# Altium integrated library TI Amplifiers and Linear Isolation Amplifier.IntLib: 19 symbols
Pins are listed as number, name and electrical type; pins without a type are passive.

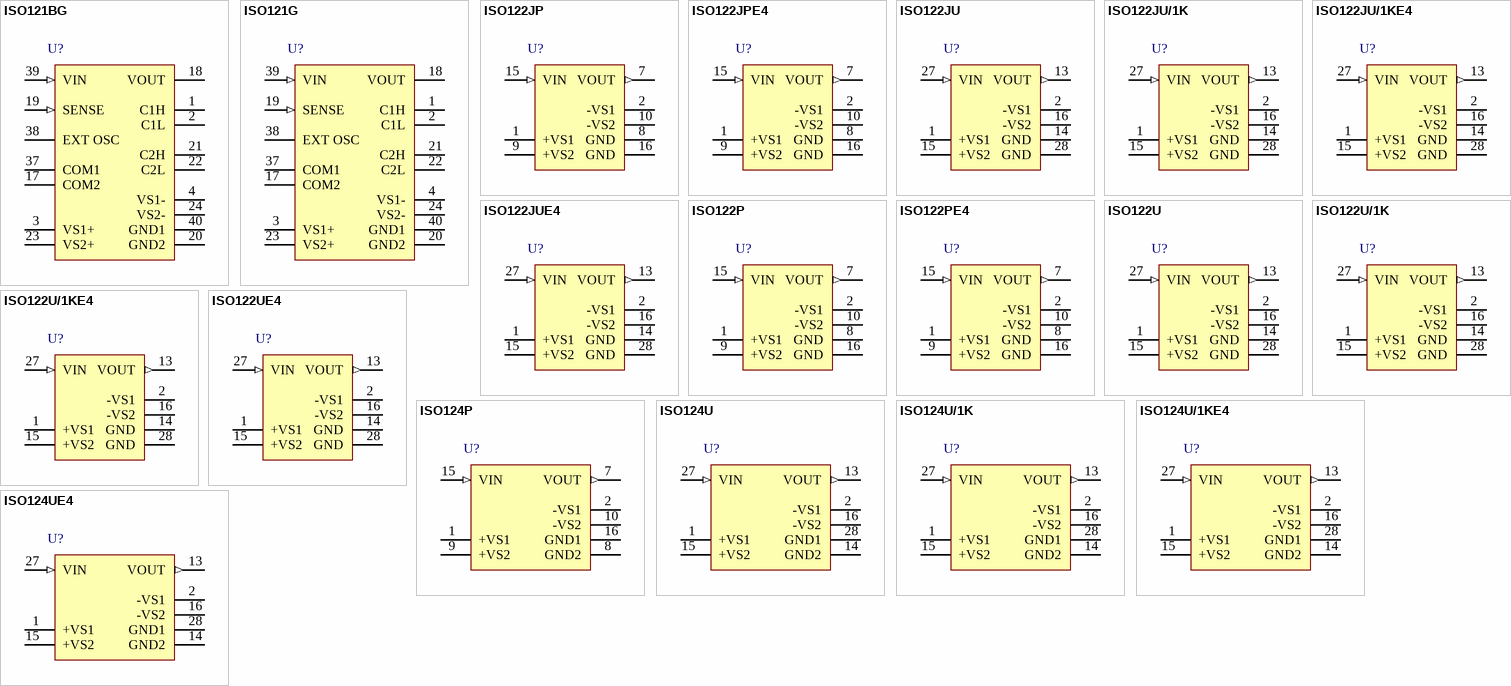
[diagram p0: symbols ISO121BG to ISO124UE4]

## ISO121BG
designator U?
Precision Low Cost Isolation Amplifier, -55 to 125 degC, 16-pin DIP (JVD16), Green (RoHS & no Sb/Br); Manufacturer: Texas Instruments; PartNumber: ISO121BG; Gain Non-Linearity (+/-)(Max)(%): 0.01; Isolation Mode Rejection 60Hz(Typ)(dB): 115; Isolation Voltage Cont Peak (DC)(V): 4950; Isolation Voltage Pulse/Test Peak(V): 5600; Leakage Current at 240V/60Hz(Max)(uArms): 0.5; Small Signal Bandwidth(Typ)(kHz): 60; DatasheetVersion: SBOS158; PackageVersion: 4202636/A, 08/2001; PackageReference: CDIP_SB_JVD-16; PackageDescription: 16-Pin Ceramic Side-Breaze Dual-In-Line, Body 50.925 x 15.11 mm, Pitch 2.54 mm; Supplier 1: Digi-Key; Supplier Part Number 1: 296-12577-5-ND; Supplier 2: Newark; Supplier Part Number 2: 35C1750; Supplier 3: Mouser; Supplier Part Number 3: 595-ISO121BG; Eco-Plan: Green (RoHS & no Sb/Br); SubFamily: Isolation Amplifier; Mounting Technology: Through Hole; Code_JEDEC: MO-038-AC; ComponentLink1Description: Manufacturer URL; ComponentLink1URL: http://www.ti.com/; ComponentLink2Description: Datasheet; ComponentLink2URL: http://www.ti.com/general/docs/lit/getliterature.tsp?genericPartNumber=ISO121&fileType=pdf; ComponentLink3Description: Package Specification; ComponentLink3URL: http://www.ti.com/litv/pdf/mcdi039
footprint TI-JVD16 (DIP, 16-Leads, Body 50.925x15.11mm, Pitch 2.54mm)
pins: 1 C1H, 2 C1L, 3 VS1+ (power), 4 VS1- (power), 17 COM2, 18 VOUT (hiz), 19 SENSE (in), 20 GND2 (power), 21 C2H, 22 C2L, 23 VS2+ (power), 24 VS2- (power), 37 COM1, 38 EXT OSC, 39 VIN (in), 40 GND1 (power)

## ISO121G
designator U?
Precision Low Cost Isolation Amplifier, -55 to 125 degC, 16-pin DIP (JVD16), Green (RoHS & no Sb/Br); Manufacturer: Texas Instruments; PartNumber: ISO121G; Gain Non-Linearity (+/-)(Max)(%): 0.05; Isolation Mode Rejection 60Hz(Typ)(dB): 115; Isolation Voltage Cont Peak (DC)(V): 4950; Isolation Voltage Pulse/Test Peak(V): 5600; Leakage Current at 240V/60Hz(Max)(uArms): 0.5; Small Signal Bandwidth(Typ)(kHz): 60; DatasheetVersion: SBOS158; PackageVersion: 4202636/A, 08/2001; PackageReference: CDIP_SB_JVD-16; PackageDescription: 16-Pin Ceramic Side-Breaze Dual-In-Line, Body 50.925 x 15.11 mm, Pitch 2.54 mm; Supplier 1: Digi-Key; Supplier Part Number 1: 296-36096-5-ND; Supplier 2: Mouser; Supplier Part Number 2: 595-ISO121G; Eco-Plan: Green (RoHS & no Sb/Br); SubFamily: Isolation Amplifier; Mounting Technology: Through Hole; Code_JEDEC: MO-038-AC; ComponentLink1Description: Manufacturer URL; ComponentLink1URL: http://www.ti.com/; ComponentLink2Description: Datasheet; ComponentLink2URL: http://www.ti.com/general/docs/lit/getliterature.tsp?genericPartNumber=ISO121&fileType=pdf; ComponentLink3Description: Package Specification; ComponentLink3URL: http://www.ti.com/litv/pdf/mcdi039
footprint TI-JVD16 (DIP, 16-Leads, Body 50.925x15.11mm, Pitch 2.54mm)
pins: 1 C1H, 2 C1L, 3 VS1+ (power), 4 VS1- (power), 17 COM2, 18 VOUT (hiz), 19 SENSE (in), 20 GND2 (power), 21 C2H, 22 C2L, 23 VS2+ (power), 24 VS2- (power), 37 COM1, 38 EXT OSC, 39 VIN (in), 40 GND1 (power)

## ISO122JP
designator U?
Precision Low Cost Isolation Amplifier, -25 to 85 degC, 8-pin PDIP (NVF8), Pb-Free (RoHS); Manufacturer: Texas Instruments; PartNumber: ISO122JP; Gain Non-Linearity (+/-)(Max)(%): 0.05; Isolation Mode Rejection 60Hz(Typ)(dB): 140; Isolation Voltage Pulse/Test Peak(V): 2400; Leakage Current at 240V/60Hz(Max)(uArms): 0.5; Small Signal Bandwidth(Typ)(kHz): 50; DatasheetVersion: SBOS160; PackageVersion: 4202501/A, 08/2001; PackageReference: PDIP_NVF-8; PackageDescription: 8-Pin Plastic In-Line, Body 20.005 x 6.605 mm, Pitch 2.54 mm; Supplier 1: Digi-Key; Supplier Part Number 1: ISO122JP-ND; Supplier 2: Newark; Supplier Part Number 2: 75C0481; Supplier 3: Mouser; Supplier Part Number 3: 595-ISO122JP; Eco-Plan: Pb-Free (RoHS); SubFamily: Isolation Amplifier; Mounting Technology: Through Hole; Code_JEDEC: MS-001-BB; ComponentLink1Description: Manufacturer URL; ComponentLink1URL: http://www.ti.com/; ComponentLink2Description: Datasheet; ComponentLink2URL: http://www.ti.com/general/docs/lit/getliterature.tsp?genericPartNumber=ISO122&fileType=pdf; ComponentLink3Description: Package Specification; ComponentLink3URL: http://www.ti.com/litv/pdf/mcdi039
footprint TI-PDIP_NVF-8 (DIP, 8-Leads, Body 20.005x6.605mm, Pitch 1.27mm)
pins: 1 +VS1 (power), 2 -VS1 (power), 7 VOUT (out), 8 GND (power), 9 +VS2 (power), 10 -VS2 (power), 15 VIN (in), 16 GND (power)

## ISO122JPE4
designator U?
Precision Low Cost Isolation Amplifier, -25 to 85 degC, 8-pin PDIP (NVF8), Pb-Free (RoHS); Manufacturer: Texas Instruments; PartNumber: ISO122JPE4; Gain Non-Linearity (+/-)(Max)(%): 0.05; Isolation Mode Rejection 60Hz(Typ)(dB): 140; Isolation Voltage Pulse/Test Peak(V): 2400; Leakage Current at 240V/60Hz(Max)(uArms): 0.5; Small Signal Bandwidth(Typ)(kHz): 50; DatasheetVersion: SBOS160; PackageVersion: 4202501/A, 08/2001; PackageReference: PDIP_NVF-8; PackageDescription: 8-Pin Plastic In-Line, Body 20.005 x 6.605 mm, Pitch 2.54 mm; Supplier 1: Digi-Key; Supplier Part Number 1: 296-36097-5-ND; Supplier 2: Farnell; Supplier Part Number 2: 1178426; Supplier 3: Newark; Supplier Part Number 3: 04M7284; Supplier 4: Newark; Supplier Part Number 4: 80K2279; Supplier 5: Mouser; Supplier Part Number 5: 595-ISO122JPE4; Eco-Plan: Pb-Free (RoHS); SubFamily: Isolation Amplifier; Mounting Technology: Through Hole; Code_JEDEC: MS-001-BB; ComponentLink1Description: Manufacturer URL; ComponentLink1URL: http://www.ti.com/; ComponentLink2Description: Datasheet; ComponentLink2URL: http://www.ti.com/general/docs/lit/getliterature.tsp?genericPartNumber=ISO122&fileType=pdf; ComponentLink3Description: Package Specification; ComponentLink3URL: http://www.ti.com/litv/pdf/mcdi039
footprint TI-PDIP_NVF-8 (DIP, 8-Leads, Body 20.005x6.605mm, Pitch 1.27mm)
pins: 1 +VS1 (power), 2 -VS1 (power), 7 VOUT (out), 8 GND (power), 9 +VS2 (power), 10 -VS2 (power), 15 VIN (in), 16 GND (power)

## ISO122JU
designator U?
Precision Low Cost Isolation Amplifier, -25 to 85 degC, 8-pin SOIC (DVA8), Green (RoHS & no Sb/Br); Manufacturer: Texas Instruments; PartNumber: ISO122JU; Gain Non-Linearity (+/-)(Max)(%): 0.05; Isolation Mode Rejection 60Hz(Typ)(dB): 140; Isolation Voltage Pulse/Test Peak(V): 2400; Leakage Current at 240V/60Hz(Max)(uArms): 0.5; Small Signal Bandwidth(Typ)(kHz): 50; DatasheetVersion: SBOS160; PackageVersion: 4202103/B, 08/2001; PackageReference: DVA8; PackageDescription: 8-Pin Plastic Small Outline, Body 17.9 x 7.5 mm, Pitch 1.27 mm; Supplier 1: Digi-Key; Supplier Part Number 1: ISO122JU-ND; Supplier 2: Newark; Supplier Part Number 2: 35C1751; Supplier 3: Mouser; Supplier Part Number 3: 595-ISO122JU; Eco-Plan: Green (RoHS & no Sb/Br); SubFamily: Isolation Amplifier; Mounting Technology: Surface Mount; Code_JEDEC: MS-013-AE; ComponentLink1Description: Manufacturer URL; ComponentLink1URL: http://www.ti.com/; ComponentLink2Description: Datasheet; ComponentLink2URL: http://www.ti.com/general/docs/lit/getliterature.tsp?genericPartNumber=ISO122&fileType=pdf; ComponentLink3Description: Package Specification; ComponentLink3URL: http://www.ti.com/litv/pdf/mcdi039
footprint TI-DVA8_N (SOIC, 8-Leads, Body 17.9x7.5mm, Pitch 1.27mm, IPC Medium Density)
footprint TI-DVA8_L (SOIC, 8-Leads, Body 17.9x7.5mm, Pitch 1.27mm, IPC High Density)
footprint TI-DVA8_M (SOIC, 8-Leads, Body 17.9x7.5mm, Pitch 1.27mm, IPC Low Density)
pins: 1 +VS1 (power), 2 -VS1 (power), 13 VOUT (out), 14 GND (power), 15 +VS2 (power), 16 -VS2 (power), 27 VIN (in), 28 GND (power)

## ISO122JU/1K
designator U?
Precision Low Cost Isolation Amplifier, -25 to 85 degC, 8-pin SOIC (DVA8), Green (RoHS & no Sb/Br); Manufacturer: Texas Instruments; PartNumber: ISO122JU/1K; Gain Non-Linearity (+/-)(Max)(%): 0.05; Isolation Mode Rejection 60Hz(Typ)(dB): 140; Isolation Voltage Pulse/Test Peak(V): 2400; Leakage Current at 240V/60Hz(Max)(uArms): 0.5; Small Signal Bandwidth(Typ)(kHz): 50; DatasheetVersion: SBOS160; PackageVersion: 4202103/B, 08/2001; PackageReference: DVA8; PackageDescription: 8-Pin Plastic Small Outline, Body 17.9 x 7.5 mm, Pitch 1.27 mm; Supplier 1: Digi-Key; Supplier Part Number 1: ISO122JU/1K-ND; Supplier 2: Newark; Supplier Part Number 2: 75C0482; Supplier 3: Mouser; Supplier Part Number 3: 595-ISO122JU/1K; Eco-Plan: Green (RoHS & no Sb/Br); SubFamily: Isolation Amplifier; Mounting Technology: Surface Mount; Code_JEDEC: MS-013-AE; ComponentLink1Description: Manufacturer URL; ComponentLink1URL: http://www.ti.com/; ComponentLink2Description: Datasheet; ComponentLink2URL: http://www.ti.com/general/docs/lit/getliterature.tsp?genericPartNumber=ISO122&fileType=pdf; ComponentLink3Description: Package Specification; ComponentLink3URL: http://www.ti.com/litv/pdf/mcdi039
footprint TI-DVA8_N (SOIC, 8-Leads, Body 17.9x7.5mm, Pitch 1.27mm, IPC Medium Density)
footprint TI-DVA8_L (SOIC, 8-Leads, Body 17.9x7.5mm, Pitch 1.27mm, IPC High Density)
footprint TI-DVA8_M (SOIC, 8-Leads, Body 17.9x7.5mm, Pitch 1.27mm, IPC Low Density)
pins: 1 +VS1 (power), 2 -VS1 (power), 13 VOUT (out), 14 GND (power), 15 +VS2 (power), 16 -VS2 (power), 27 VIN (in), 28 GND (power)

## ISO122JU/1KE4
designator U?
Precision Low Cost Isolation Amplifier, -25 to 85 degC, 8-pin SOIC (DVA8), Green (RoHS & no Sb/Br); Manufacturer: Texas Instruments; PartNumber: ISO122JU/1KE4; Gain Non-Linearity (+/-)(Max)(%): 0.05; Isolation Mode Rejection 60Hz(Typ)(dB): 140; Isolation Voltage Pulse/Test Peak(V): 2400; Leakage Current at 240V/60Hz(Max)(uArms): 0.5; Small Signal Bandwidth(Typ)(kHz): 50; DatasheetVersion: SBOS160; PackageVersion: 4202103/B, 08/2001; PackageReference: DVA8; PackageDescription: 8-Pin Plastic Small Outline, Body 17.9 x 7.5 mm, Pitch 1.27 mm; Supplier 1: Digi-Key; Supplier Part Number 1: ISO122JU/1KE4-ND; Supplier 2: Newark; Supplier Part Number 2: 61K0053; Supplier 3: Mouser; Supplier Part Number 3: 595-ISO122JU/1KE4; Eco-Plan: Green (RoHS & no Sb/Br); SubFamily: Isolation Amplifier; Mounting Technology: Surface Mount; Code_JEDEC: MS-013-AE; ComponentLink1Description: Manufacturer URL; ComponentLink1URL: http://www.ti.com/; ComponentLink2Description: Datasheet; ComponentLink2URL: http://www.ti.com/general/docs/lit/getliterature.tsp?genericPartNumber=ISO122&fileType=pdf; ComponentLink3Description: Package Specification; ComponentLink3URL: http://www.ti.com/litv/pdf/mcdi039
footprint TI-DVA8_N (SOIC, 8-Leads, Body 17.9x7.5mm, Pitch 1.27mm, IPC Medium Density)
footprint TI-DVA8_L (SOIC, 8-Leads, Body 17.9x7.5mm, Pitch 1.27mm, IPC High Density)
footprint TI-DVA8_M (SOIC, 8-Leads, Body 17.9x7.5mm, Pitch 1.27mm, IPC Low Density)
pins: 1 +VS1 (power), 2 -VS1 (power), 13 VOUT (out), 14 GND (power), 15 +VS2 (power), 16 -VS2 (power), 27 VIN (in), 28 GND (power)

## ISO122JUE4
designator U?
Precision Low Cost Isolation Amplifier, -25 to 85 degC, 8-pin SOIC (DVA8), Green (RoHS & no Sb/Br); Manufacturer: Texas Instruments; PartNumber: ISO122JUE4; Gain Non-Linearity (+/-)(Max)(%): 0.05; Isolation Mode Rejection 60Hz(Typ)(dB): 140; Isolation Voltage Pulse/Test Peak(V): 2400; Leakage Current at 240V/60Hz(Max)(uArms): 0.5; Small Signal Bandwidth(Typ)(kHz): 50; DatasheetVersion: SBOS160; PackageVersion: 4202103/B, 08/2001; PackageReference: DVA8; PackageDescription: 8-Pin Plastic Small Outline, Body 17.9 x 7.5 mm, Pitch 1.27 mm; Supplier 1: Digi-Key; Supplier Part Number 1: ISO122JUE4-ND; Supplier 2: Farnell; Supplier Part Number 2: 1206914; Supplier 3: Newark; Supplier Part Number 3: 97K2529; Supplier 4: Newark; Supplier Part Number 4: 61K0054; Supplier 5: Mouser; Supplier Part Number 5: 595-ISO122JUE4; Eco-Plan: Green (RoHS & no Sb/Br); SubFamily: Isolation Amplifier; Mounting Technology: Surface Mount; Code_JEDEC: MS-013-AE; ComponentLink1Description: Manufacturer URL; ComponentLink1URL: http://www.ti.com/; ComponentLink2Description: Datasheet; ComponentLink2URL: http://www.ti.com/general/docs/lit/getliterature.tsp?genericPartNumber=ISO122&fileType=pdf; ComponentLink3Description: Package Specification; ComponentLink3URL: http://www.ti.com/litv/pdf/mcdi039
footprint TI-DVA8_N (SOIC, 8-Leads, Body 17.9x7.5mm, Pitch 1.27mm, IPC Medium Density)
footprint TI-DVA8_L (SOIC, 8-Leads, Body 17.9x7.5mm, Pitch 1.27mm, IPC High Density)
footprint TI-DVA8_M (SOIC, 8-Leads, Body 17.9x7.5mm, Pitch 1.27mm, IPC Low Density)
pins: 1 +VS1 (power), 2 -VS1 (power), 13 VOUT (out), 14 GND (power), 15 +VS2 (power), 16 -VS2 (power), 27 VIN (in), 28 GND (power)

## ISO122P
designator U?
Precision Low Cost Isolation Amplifier, -25 to 85 degC, 8-pin PDIP (NVF8), Pb-Free (RoHS); Manufacturer: Texas Instruments; PartNumber: ISO122P; Gain Non-Linearity (+/-)(Max)(%): 0.02; Isolation Mode Rejection 60Hz(Typ)(dB): 140; Isolation Voltage Pulse/Test Peak(V): 2400; Leakage Current at 240V/60Hz(Max)(uArms): 0.5; Small Signal Bandwidth(Typ)(kHz): 50; DatasheetVersion: SBOS160; PackageVersion: 4202501/A, 08/2001; PackageReference: PDIP_NVF-8; PackageDescription: 8-Pin Plastic In-Line, Body 20.005 x 6.605 mm, Pitch 2.54 mm; Supplier 1: Digi-Key; Supplier Part Number 1: ISO122P-ND; Supplier 2: Newark; Supplier Part Number 2: 55M8194; Supplier 3: Mouser; Supplier Part Number 3: 595-ISO122P; Eco-Plan: Pb-Free (RoHS); SubFamily: Isolation Amplifier; Mounting Technology: Through Hole; Code_JEDEC: MS-001-BB; ComponentLink1Description: Manufacturer URL; ComponentLink1URL: http://www.ti.com/; ComponentLink2Description: Datasheet; ComponentLink2URL: http://www.ti.com/general/docs/lit/getliterature.tsp?genericPartNumber=ISO122&fileType=pdf; ComponentLink3Description: Package Specification; ComponentLink3URL: http://www.ti.com/litv/pdf/mcdi039
footprint TI-PDIP_NVF-8 (DIP, 8-Leads, Body 20.005x6.605mm, Pitch 1.27mm)
pins: 1 +VS1 (power), 2 -VS1 (power), 7 VOUT (out), 8 GND (power), 9 +VS2 (power), 10 -VS2 (power), 15 VIN (in), 16 GND (power)

## ISO122PE4
designator U?
Precision Low Cost Isolation Amplifier, -25 to 85 degC, 8-pin PDIP (NVF8), Pb-Free (RoHS); Manufacturer: Texas Instruments; PartNumber: ISO122PE4; Gain Non-Linearity (+/-)(Max)(%): 0.02; Isolation Mode Rejection 60Hz(Typ)(dB): 140; Isolation Voltage Pulse/Test Peak(V): 2400; Leakage Current at 240V/60Hz(Max)(uArms): 0.5; Small Signal Bandwidth(Typ)(kHz): 50; DatasheetVersion: SBOS160; PackageVersion: 4202501/A, 08/2001; PackageReference: PDIP_NVF-8; PackageDescription: 8-Pin Plastic In-Line, Body 20.005 x 6.605 mm, Pitch 2.54 mm; Supplier 1: Digi-Key; Supplier Part Number 1: ISO122PE4-ND; Supplier 2: Farnell; Supplier Part Number 2: 1178433; Supplier 3: Newark; Supplier Part Number 3: 24M2977; Supplier 4: Newark; Supplier Part Number 4: 80K2280; Supplier 5: Mouser; Supplier Part Number 5: 595-ISO122PE4; Eco-Plan: Pb-Free (RoHS); SubFamily: Isolation Amplifier; Mounting Technology: Through Hole; Code_JEDEC: MS-001-BB; ComponentLink1Description: Manufacturer URL; ComponentLink1URL: http://www.ti.com/; ComponentLink2Description: Datasheet; ComponentLink2URL: http://www.ti.com/general/docs/lit/getliterature.tsp?genericPartNumber=ISO122&fileType=pdf; ComponentLink3Description: Package Specification; ComponentLink3URL: http://www.ti.com/litv/pdf/mcdi039
footprint TI-PDIP_NVF-8 (DIP, 8-Leads, Body 20.005x6.605mm, Pitch 1.27mm)
pins: 1 +VS1 (power), 2 -VS1 (power), 7 VOUT (out), 8 GND (power), 9 +VS2 (power), 10 -VS2 (power), 15 VIN (in), 16 GND (power)

## ISO122U
designator U?
Precision Low Cost Isolation Amplifier, -25 to 85 degC, 8-pin SOIC (DVA8), Green (RoHS & no Sb/Br); Manufacturer: Texas Instruments; PartNumber: ISO122U; Gain Non-Linearity (+/-)(Max)(%): 0.02; Isolation Mode Rejection 60Hz(Typ)(dB): 140; Isolation Voltage Pulse/Test Peak(V): 2400; Leakage Current at 240V/60Hz(Max)(uArms): 0.5; Small Signal Bandwidth(Typ)(kHz): 50; DatasheetVersion: SBOS160; PackageVersion: 4202103/B, 08/2001; PackageReference: DVA8; PackageDescription: 8-Pin Plastic Small Outline, Body 17.9 x 7.5 mm, Pitch 1.27 mm; Supplier 1: Digi-Key; Supplier Part Number 1: ISO122U-ND; Supplier 2: Newark; Supplier Part Number 2: 75C0483; Supplier 3: Mouser; Supplier Part Number 3: 595-ISO122U; Eco-Plan: Green (RoHS & no Sb/Br); SubFamily: Isolation Amplifier; Mounting Technology: Surface Mount; Code_JEDEC: MS-013-AE; ComponentLink1Description: Manufacturer URL; ComponentLink1URL: http://www.ti.com/; ComponentLink2Description: Datasheet; ComponentLink2URL: http://www.ti.com/general/docs/lit/getliterature.tsp?genericPartNumber=ISO122&fileType=pdf; ComponentLink3Description: Package Specification; ComponentLink3URL: http://www.ti.com/litv/pdf/mcdi039
footprint TI-DVA8_N (SOIC, 8-Leads, Body 17.9x7.5mm, Pitch 1.27mm, IPC Medium Density)
footprint TI-DVA8_L (SOIC, 8-Leads, Body 17.9x7.5mm, Pitch 1.27mm, IPC High Density)
footprint TI-DVA8_M (SOIC, 8-Leads, Body 17.9x7.5mm, Pitch 1.27mm, IPC Low Density)
pins: 1 +VS1 (power), 2 -VS1 (power), 13 VOUT (out), 14 GND (power), 15 +VS2 (power), 16 -VS2 (power), 27 VIN (in), 28 GND (power)

## ISO122U/1K
designator U?
Precision Low Cost Isolation Amplifier, -25 to 85 degC, 8-pin SOIC (DVA8), Green (RoHS & no Sb/Br); Manufacturer: Texas Instruments; PartNumber: ISO122U/1K; Gain Non-Linearity (+/-)(Max)(%): 0.02; Isolation Mode Rejection 60Hz(Typ)(dB): 140; Isolation Voltage Pulse/Test Peak(V): 2400; Leakage Current at 240V/60Hz(Max)(uArms): 0.5; Small Signal Bandwidth(Typ)(kHz): 50; DatasheetVersion: SBOS160; PackageVersion: 4202103/B, 08/2001; PackageReference: DVA8; PackageDescription: 8-Pin Plastic Small Outline, Body 17.9 x 7.5 mm, Pitch 1.27 mm; Supplier 1: Digi-Key; Supplier Part Number 1: ISO122U/1K-ND; Supplier 2: Newark; Supplier Part Number 2: 75C0484; Supplier 3: Mouser; Supplier Part Number 3: 595-ISO122U/1K; Eco-Plan: Green (RoHS & no Sb/Br); SubFamily: Isolation Amplifier; Mounting Technology: Surface Mount; Code_JEDEC: MS-013-AE; ComponentLink1Description: Manufacturer URL; ComponentLink1URL: http://www.ti.com/; ComponentLink2Description: Datasheet; ComponentLink2URL: http://www.ti.com/general/docs/lit/getliterature.tsp?genericPartNumber=ISO122&fileType=pdf; ComponentLink3Description: Package Specification; ComponentLink3URL: http://www.ti.com/litv/pdf/mcdi039
footprint TI-DVA8_N (SOIC, 8-Leads, Body 17.9x7.5mm, Pitch 1.27mm, IPC Medium Density)
footprint TI-DVA8_L (SOIC, 8-Leads, Body 17.9x7.5mm, Pitch 1.27mm, IPC High Density)
footprint TI-DVA8_M (SOIC, 8-Leads, Body 17.9x7.5mm, Pitch 1.27mm, IPC Low Density)
pins: 1 +VS1 (power), 2 -VS1 (power), 13 VOUT (out), 14 GND (power), 15 +VS2 (power), 16 -VS2 (power), 27 VIN (in), 28 GND (power)

## ISO122U/1KE4
designator U?
Precision Low Cost Isolation Amplifier, -25 to 85 degC, 8-pin SOIC (DVA8), Green (RoHS & no Sb/Br); Manufacturer: Texas Instruments; PartNumber: ISO122U/1KE4; Gain Non-Linearity (+/-)(Max)(%): 0.02; Isolation Mode Rejection 60Hz(Typ)(dB): 140; Isolation Voltage Pulse/Test Peak(V): 2400; Leakage Current at 240V/60Hz(Max)(uArms): 0.5; Small Signal Bandwidth(Typ)(kHz): 50; DatasheetVersion: SBOS160; PackageVersion: 4202103/B, 08/2001; PackageReference: DVA8; PackageDescription: 8-Pin Plastic Small Outline, Body 17.9 x 7.5 mm, Pitch 1.27 mm; Supplier 1: Digi-Key; Supplier Part Number 1: ISO122U/1KE4-ND; Supplier 2: Newark; Supplier Part Number 2: 61K0055; Supplier 3: Mouser; Supplier Part Number 3: 595-ISO122U/1KE4; Eco-Plan: Green (RoHS & no Sb/Br); SubFamily: Isolation Amplifier; Mounting Technology: Surface Mount; Code_JEDEC: MS-013-AE; ComponentLink1Description: Manufacturer URL; ComponentLink1URL: http://www.ti.com/; ComponentLink2Description: Datasheet; ComponentLink2URL: http://www.ti.com/general/docs/lit/getliterature.tsp?genericPartNumber=ISO122&fileType=pdf; ComponentLink3Description: Package Specification; ComponentLink3URL: http://www.ti.com/litv/pdf/mcdi039
footprint TI-DVA8_N (SOIC, 8-Leads, Body 17.9x7.5mm, Pitch 1.27mm, IPC Medium Density)
footprint TI-DVA8_L (SOIC, 8-Leads, Body 17.9x7.5mm, Pitch 1.27mm, IPC High Density)
footprint TI-DVA8_M (SOIC, 8-Leads, Body 17.9x7.5mm, Pitch 1.27mm, IPC Low Density)
pins: 1 +VS1 (power), 2 -VS1 (power), 13 VOUT (out), 14 GND (power), 15 +VS2 (power), 16 -VS2 (power), 27 VIN (in), 28 GND (power)

## ISO122UE4
designator U?
Precision Low Cost Isolation Amplifier, -25 to 85 degC, 8-pin SOIC (DVA8), Green (RoHS & no Sb/Br); Manufacturer: Texas Instruments; PartNumber: ISO122UE4; Gain Non-Linearity (+/-)(Max)(%): 0.02; Isolation Mode Rejection 60Hz(Typ)(dB): 140; Isolation Voltage Pulse/Test Peak(V): 2400; Leakage Current at 240V/60Hz(Max)(uArms): 0.5; Small Signal Bandwidth(Typ)(kHz): 50; DatasheetVersion: SBOS160; PackageVersion: 4202103/B, 08/2001; PackageReference: DVA8; PackageDescription: 8-Pin Plastic Small Outline, Body 17.9 x 7.5 mm, Pitch 1.27 mm; Supplier 1: Digi-Key; Supplier Part Number 1: ISO122UE4-ND; Supplier 2: Farnell; Supplier Part Number 2: 1206915; Supplier 3: Newark; Supplier Part Number 3: 97K2530; Supplier 4: Newark; Supplier Part Number 4: 61K0056; Supplier 5: Mouser; Supplier Part Number 5: 595-ISO122UE4; Eco-Plan: Green (RoHS & no Sb/Br); SubFamily: Isolation Amplifier; Mounting Technology: Surface Mount; Code_JEDEC: MS-013-AE; ComponentLink1Description: Manufacturer URL; ComponentLink1URL: http://www.ti.com/; ComponentLink2Description: Datasheet; ComponentLink2URL: http://www.ti.com/general/docs/lit/getliterature.tsp?genericPartNumber=ISO122&fileType=pdf; ComponentLink3Description: Package Specification; ComponentLink3URL: http://www.ti.com/litv/pdf/mcdi039
footprint TI-DVA8_N (SOIC, 8-Leads, Body 17.9x7.5mm, Pitch 1.27mm, IPC Medium Density)
footprint TI-DVA8_L (SOIC, 8-Leads, Body 17.9x7.5mm, Pitch 1.27mm, IPC High Density)
footprint TI-DVA8_M (SOIC, 8-Leads, Body 17.9x7.5mm, Pitch 1.27mm, IPC Low Density)
pins: 1 +VS1 (power), 2 -VS1 (power), 13 VOUT (out), 14 GND (power), 15 +VS2 (power), 16 -VS2 (power), 27 VIN (in), 28 GND (power)

## ISO124P
designator U?
Precision Low Cost Isolation Amplifier, -25 to 85 degC, 8-pin PDIP (NVF8), Pb-Free (RoHS); Manufacturer: Texas Instruments; PartNumber: ISO124P; Gain Non-Linearity (+/-)(Max)(%): 0.01; Isolation Mode Rejection 60Hz(Typ)(dB): 140; Isolation Voltage Pulse/Test Peak(V): 2400; Leakage Current at 240V/60Hz(Max)(uArms): 0.5; Small Signal Bandwidth(Typ)(kHz): 50; DatasheetVersion: SBOS074C; PackageVersion: 4202501/A, 08/2001; PackageReference: PDIP_NVF-8; PackageDescription: 8-Pin Plastic In-Line, Body 20.005 x 6.605 mm, Pitch 2.54 mm; Supplier 1: Digi-Key; Supplier Part Number 1: ISO124P-ND; Supplier 2: Farnell; Supplier Part Number 2: 1212425; Supplier 3: Newark; Supplier Part Number 3: 35C1752; Supplier 4: Mouser; Supplier Part Number 4: 595-ISO124P; Eco-Plan: Pb-Free (RoHS); SubFamily: Isolation Amplifier; Mounting Technology: Through Hole; Code_JEDEC: MS-001-BB; ComponentLink1Description: Manufacturer URL; ComponentLink1URL: http://www.ti.com/; ComponentLink2Description: Datasheet; ComponentLink2URL: http://www.ti.com/general/docs/lit/getliterature.tsp?genericPartNumber=ISO124&fileType=pdf; ComponentLink3Description: Package Specification; ComponentLink3URL: http://www.ti.com/litv/pdf/mcdi039
footprint TI-PDIP_NVF-8 (DIP, 8-Leads, Body 20.005x6.605mm, Pitch 1.27mm)
pins: 1 +VS1 (power), 2 -VS1 (power), 7 VOUT (out), 8 GND2 (power), 9 +VS2 (power), 10 -VS2 (power), 15 VIN (in), 16 GND1 (power)

## ISO124U
designator U?
Precision Low Cost Isolation Amplifier, -25 to 85 degC, 8-pin SOIC (DVA8), Green (RoHS & no Sb/Br); Manufacturer: Texas Instruments; PartNumber: ISO124U; Gain Non-Linearity (+/-)(Max)(%): 0.01; Isolation Mode Rejection 60Hz(Typ)(dB): 140; Isolation Voltage Pulse/Test Peak(V): 2400; Leakage Current at 240V/60Hz(Max)(uArms): 0.5; Small Signal Bandwidth(Typ)(kHz): 50; DatasheetVersion: SBOS074C; PackageVersion: 4202103/B, 08/2001; PackageReference: DVA8; PackageDescription: 8-Pin Plastic Small Outline, Body 17.9 x 7.5 mm, Pitch 1.27 mm; Supplier 1: Digi-Key; Supplier Part Number 1: ISO124U-ND; Supplier 2: Newark; Supplier Part Number 2: 10M8426; Supplier 3: Mouser; Supplier Part Number 3: 595-ISO124U; Eco-Plan: Green (RoHS & no Sb/Br); SubFamily: Isolation Amplifier; Mounting Technology: Surface Mount; Code_JEDEC: MS-013-AE; ComponentLink1Description: Manufacturer URL; ComponentLink1URL: http://www.ti.com/; ComponentLink2Description: Datasheet; ComponentLink2URL: http://www.ti.com/general/docs/lit/getliterature.tsp?genericPartNumber=ISO124&fileType=pdf; ComponentLink3Description: Package Specification; ComponentLink3URL: http://www.ti.com/litv/pdf/mcdi039
footprint TI-DVA8_N (SOIC, 8-Leads, Body 17.9x7.5mm, Pitch 1.27mm, IPC Medium Density)
footprint TI-DVA8_L (SOIC, 8-Leads, Body 17.9x7.5mm, Pitch 1.27mm, IPC High Density)
footprint TI-DVA8_M (SOIC, 8-Leads, Body 17.9x7.5mm, Pitch 1.27mm, IPC Low Density)
pins: 1 +VS1 (power), 2 -VS1 (power), 13 VOUT (out), 14 GND2 (power), 15 +VS2 (power), 16 -VS2 (power), 27 VIN (in), 28 GND1 (power)

## ISO124U/1K
designator U?
Precision Low Cost Isolation Amplifier, -25 to 85 degC, 8-pin SOIC (DVA8), Green (RoHS & no Sb/Br); Manufacturer: Texas Instruments; PartNumber: ISO124U/1K; Gain Non-Linearity (+/-)(Max)(%): 0.01; Isolation Mode Rejection 60Hz(Typ)(dB): 140; Isolation Voltage Pulse/Test Peak(V): 2400; Leakage Current at 240V/60Hz(Max)(uArms): 0.5; Small Signal Bandwidth(Typ)(kHz): 50; DatasheetVersion: SBOS074C; PackageVersion: 4202103/B, 08/2001; PackageReference: DVA8; PackageDescription: 8-Pin Plastic Small Outline, Body 17.9 x 7.5 mm, Pitch 1.27 mm; Supplier 1: Digi-Key; Supplier Part Number 1: ISO124U/1K-ND; Supplier 2: Newark; Supplier Part Number 2: 75C0485; Supplier 3: Mouser; Supplier Part Number 3: 595-ISO124U/1K; Eco-Plan: Green (RoHS & no Sb/Br); SubFamily: Isolation Amplifier; Mounting Technology: Surface Mount; Code_JEDEC: MS-013-AE; ComponentLink1Description: Manufacturer URL; ComponentLink1URL: http://www.ti.com/; ComponentLink2Description: Datasheet; ComponentLink2URL: http://www.ti.com/general/docs/lit/getliterature.tsp?genericPartNumber=ISO124&fileType=pdf; ComponentLink3Description: Package Specification; ComponentLink3URL: http://www.ti.com/litv/pdf/mcdi039
footprint TI-DVA8_N (SOIC, 8-Leads, Body 17.9x7.5mm, Pitch 1.27mm, IPC Medium Density)
footprint TI-DVA8_L (SOIC, 8-Leads, Body 17.9x7.5mm, Pitch 1.27mm, IPC High Density)
footprint TI-DVA8_M (SOIC, 8-Leads, Body 17.9x7.5mm, Pitch 1.27mm, IPC Low Density)
pins: 1 +VS1 (power), 2 -VS1 (power), 13 VOUT (out), 14 GND2 (power), 15 +VS2 (power), 16 -VS2 (power), 27 VIN (in), 28 GND1 (power)

## ISO124U/1KE4
designator U?
Precision Low Cost Isolation Amplifier, -25 to 85 degC, 8-pin SOIC (DVA8), Green (RoHS & no Sb/Br); Manufacturer: Texas Instruments; PartNumber: ISO124U/1KE4; Gain Non-Linearity (+/-)(Max)(%): 0.01; Isolation Mode Rejection 60Hz(Typ)(dB): 140; Isolation Voltage Pulse/Test Peak(V): 2400; Leakage Current at 240V/60Hz(Max)(uArms): 0.5; Small Signal Bandwidth(Typ)(kHz): 50; DatasheetVersion: SBOS074C; PackageVersion: 4202103/B, 08/2001; PackageReference: DVA8; PackageDescription: 8-Pin Plastic Small Outline, Body 17.9 x 7.5 mm, Pitch 1.27 mm; Supplier 1: Digi-Key; Supplier Part Number 1: ISO124U/1KE4-ND; Supplier 2: Newark; Supplier Part Number 2: 28M6202; Supplier 3: Mouser; Supplier Part Number 3: 595-ISO124U/1KE4; Eco-Plan: Green (RoHS & no Sb/Br); SubFamily: Isolation Amplifier; Mounting Technology: Surface Mount; Code_JEDEC: MS-013-AE; ComponentLink1Description: Manufacturer URL; ComponentLink1URL: http://www.ti.com/; ComponentLink2Description: Datasheet; ComponentLink2URL: http://www.ti.com/general/docs/lit/getliterature.tsp?genericPartNumber=ISO124&fileType=pdf; ComponentLink3Description: Package Specification; ComponentLink3URL: http://www.ti.com/litv/pdf/mcdi039
footprint TI-DVA8_N (SOIC, 8-Leads, Body 17.9x7.5mm, Pitch 1.27mm, IPC Medium Density)
footprint TI-DVA8_L (SOIC, 8-Leads, Body 17.9x7.5mm, Pitch 1.27mm, IPC High Density)
footprint TI-DVA8_M (SOIC, 8-Leads, Body 17.9x7.5mm, Pitch 1.27mm, IPC Low Density)
pins: 1 +VS1 (power), 2 -VS1 (power), 13 VOUT (out), 14 GND2 (power), 15 +VS2 (power), 16 -VS2 (power), 27 VIN (in), 28 GND1 (power)

## ISO124UE4
designator U?
Precision Low Cost Isolation Amplifier, -25 to 85 degC, 8-pin SOIC (DVA8), Green (RoHS & no Sb/Br); Manufacturer: Texas Instruments; PartNumber: ISO124UE4; Gain Non-Linearity (+/-)(Max)(%): 0.01; Isolation Mode Rejection 60Hz(Typ)(dB): 140; Isolation Voltage Pulse/Test Peak(V): 2400; Leakage Current at 240V/60Hz(Max)(uArms): 0.5; Small Signal Bandwidth(Typ)(kHz): 50; DatasheetVersion: SBOS074C; PackageVersion: 4202103/B, 08/2001; PackageReference: DVA8; PackageDescription: 8-Pin Plastic Small Outline, Body 17.9 x 7.5 mm, Pitch 1.27 mm; Supplier 1: Digi-Key; Supplier Part Number 1: ISO124UE4-ND; Supplier 2: Newark; Supplier Part Number 2: 28M6203; Supplier 3: Mouser; Supplier Part Number 3: 595-ISO124UE4; Eco-Plan: Green (RoHS & no Sb/Br); SubFamily: Isolation Amplifier; Mounting Technology: Surface Mount; Code_JEDEC: MS-013-AE; ComponentLink1Description: Manufacturer URL; ComponentLink1URL: http://www.ti.com/; ComponentLink2Description: Datasheet; ComponentLink2URL: http://www.ti.com/general/docs/lit/getliterature.tsp?genericPartNumber=ISO124&fileType=pdf; ComponentLink3Description: Package Specification; ComponentLink3URL: http://www.ti.com/litv/pdf/mcdi039
footprint TI-DVA8_N (SOIC, 8-Leads, Body 17.9x7.5mm, Pitch 1.27mm, IPC Medium Density)
footprint TI-DVA8_L (SOIC, 8-Leads, Body 17.9x7.5mm, Pitch 1.27mm, IPC High Density)
footprint TI-DVA8_M (SOIC, 8-Leads, Body 17.9x7.5mm, Pitch 1.27mm, IPC Low Density)
pins: 1 +VS1 (power), 2 -VS1 (power), 13 VOUT (out), 14 GND2 (power), 15 +VS2 (power), 16 -VS2 (power), 27 VIN (in), 28 GND1 (power)